# Altium schematic symbol library NSV1C201MZ4T1G.SchLib: 1 symbol
Pins are listed as number, name and electrical type; pins without a type are passive.

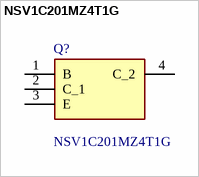
[diagram p0: symbol NSV1C201MZ4T1G]

## NSV1C201MZ4T1G
designator Q?
Bipolar Transistors - BJT 100V NPN LOW VCE(SAT) TRA; Manufacturer_Name: onsemi; Geometry.Height: 1.75mm; Mouser Part Number: 863-NSV1C201MZ4T1G; Mouser Price/Stock: https://www.mouser.co.uk/ProductDetail/onsemi/NSV1C201MZ4T1G?qs=abmNkq9no6CNkkQTLXtvJQ%3D%3D; Manufacturer_Part_Number: NSV1C201MZ4T1G; Datasheet Link: http://www.onsemi.com/pub/Collateral/NSS1C201MZ4-D.PDF
footprint SOT230P700X175-4N
pins: 1 B, 2 C_1, 3 E, 4 C_2